# Altium footprint library CAPS.PcbLib: 2 footprints
Each footprint in its own frame and in the unit in brackets; x right, y up, seen from the top. Pads: shape width x height; smd on the part's side, far side on the other; paste and mask are expansions set on the pad; w line width, h text height; cw(c..) or ccw(c..) is an arc to the next point about the centre after c.
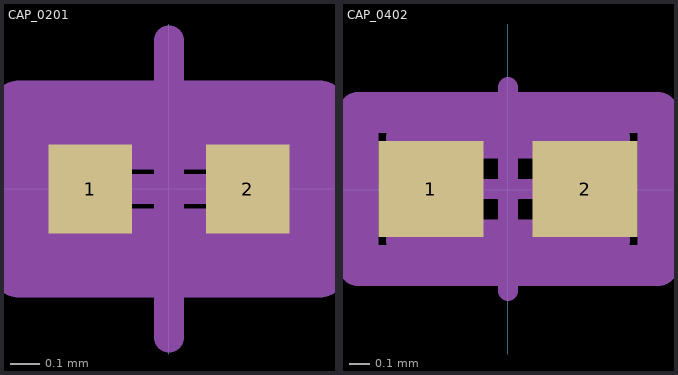
[diagram p0: the footprints below, top view; thin cyan lines are the x and y axes]

## CAP_0201 [mm]
pads (2):
  rect 0.28x0.3 smd paste+0 mask+0: 1(-0.264,-0.001) 2(0.266,-0.001)
Top Courtyard:
  lines w0.2: -0.504,-0.266 -0.504,0.264 0.506,0.264 0.506,-0.266 -0.504,-0.266
Top Assembly:
  lines w0.2: -0.504,-0.266 -0.504,0.264 0.506,0.264 0.506,-0.266 -0.504,-0.266
Top 3D Body:
  lines w0.2: -0.314,-0.166 -0.314,0.164 0.316,0.164 0.316,-0.166 -0.314,-0.166
Top Component Center:
  lines w0.1: -0.499,-0.001 0.501,-0.001 ; 0.001,-0.501 0.001,0.499
3D body "Cap_Yageo_CC0201KRX7R6BB102_eec.STEP": height 0.33, standoff 0, extent -0.299,-0.151 0.301,0.149

## CAP_0402 [mm]
pads (2):
  rect 0.515x0.472 smd paste+0 mask+0: 1(-0.378,0.004) 2(0.379,0.004)
Top Courtyard:
  lines w0.2: -0.735,-0.371 0.737,-0.371 0.737,0.379 -0.735,0.379 -0.735,-0.371
Top Assembly:
  lines w0.2: -0.735,-0.371 0.737,-0.371 0.737,0.379 -0.735,0.379 -0.735,-0.371
Top 3D Body:
  lines w0.2: -0.499,-0.246 0.501,-0.246 0.501,0.254 -0.499,0.254 -0.499,-0.246
Top Component Center:
  lines w0.1: -0.499,0.004 0.501,0.004 ; 0.001,-0.496 0.001,0.504
3D body "Res_Yageo_AC0402FR-0716R2L_eec.STEP": height 0.25, standoff 0, extent -0.735,-0.371 0.737,0.379